# Altium integrated library DHT22-Library.IntLib: 1 symbol
Pins are listed as number, name and electrical type; pins without a type are passive.

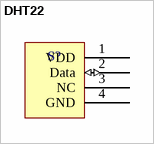
[diagram p0: symbol DHT22]

## DHT22
designator S?
DHT22 Sensor
footprint DHT22_Footprint
pins: 1 VDD (power), 2 Data (io), 3 NC, 4 GND